# Altium schematic symbol library AirQualityMonitor.SchLib: 50 symbols (part 1 of 2)
Pins are listed as number, name and electrical type; pins without a type are passive.

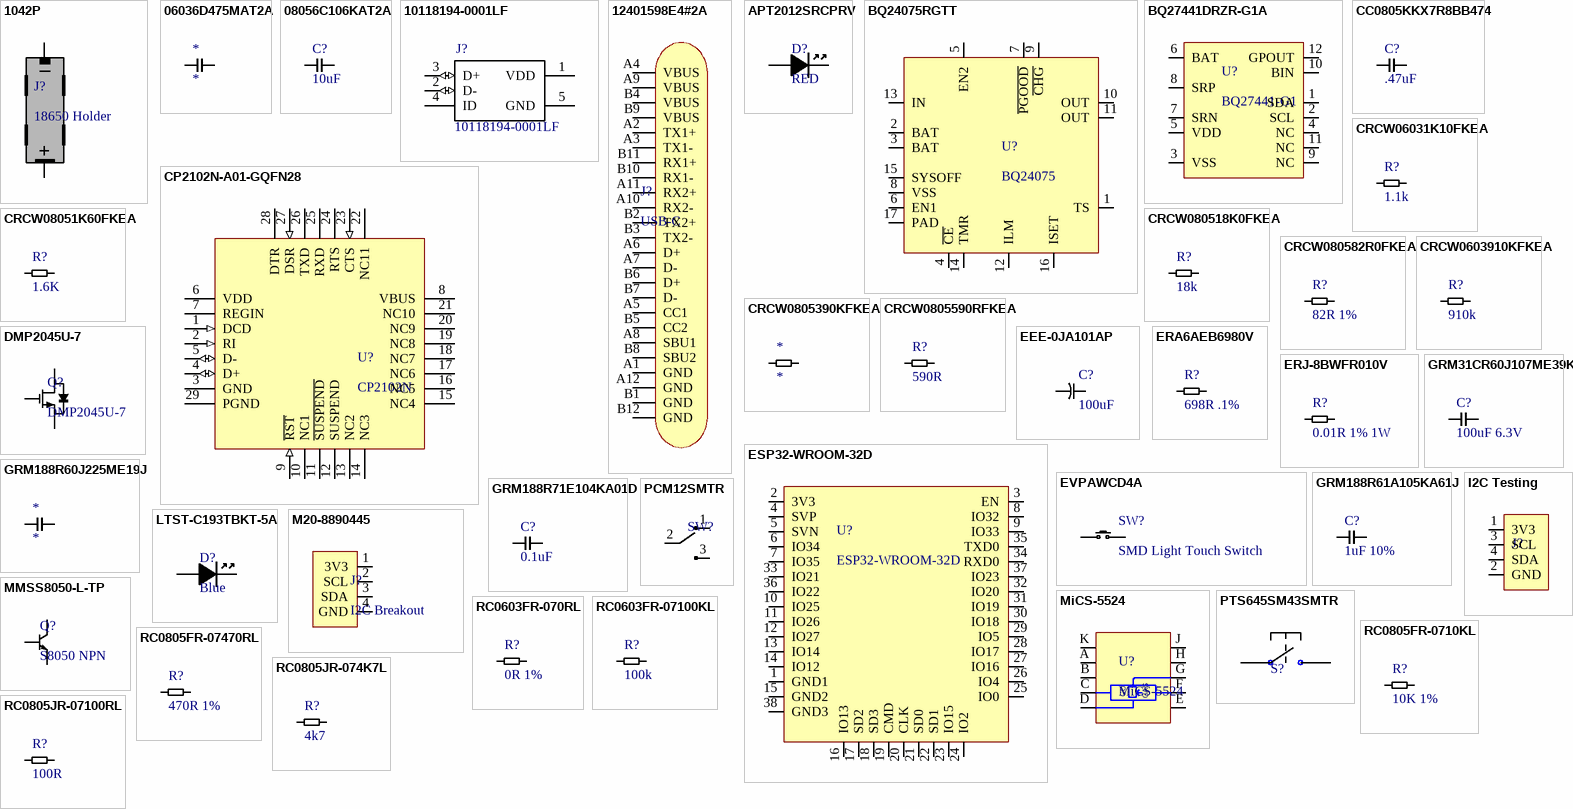
[diagram p0: symbols 1042P to RC0805JR-07100RL]

## 1042P
designator J?, comment 18650 Holder
Cylindrical Battery Contacts, Clips, Holders & Springs SMT Polarized Holder for 18650 Battery; Manufacturer: Keystone Electronics; Manufacturer Part Number: 1042P; Number of Cells: 1; Supplier 1: Digi-Key; Supplier Part Number 1: 36-1042P-ND; Stock 1: 3395; Pricing 1: 1=2.47, 10=2.107, 50=1.892, 100=1.806, 250=1.634, 1000=1.539, 2500=1.29, 5000=1.153 (USD); Mount: PCB,Surface Mount; Min Operating Temperature: -50°C; Max Operating Temperature: 145°C; Termination: SMD/SMT; Packaging: Tray; Package Quantity: 200; Lead Free: Lead Free; ComponentLink1Description: Mouser; ComponentLink1URL: https://www.mouser.com/ProductDetail/Keystone-Electronics/1042P?qs=sGAEpiMZZMtqO%252bWUGLBzeAoSIwG%2fyfJm2NzM8DAiwxE%3d; ComponentLink2Description: Datasheet; ComponentLink2URL: https://www.mouser.com/datasheet/2/215/042P-744096.pdf
footprint 18650 Holder
pins: 1 -, 2 +

## 06036D475MAT2A
designator *
CAP CER 4.7UF 6.3V X5R 0603; Manufacturer: Kyocera AVX; Manufacturer Part Number: 06036D475MAT2A; Dielectric Material: Ceramic; Tolerance: 20%; Dissipation Factor: 12.5%; Insulation Resistance: 10GR; Supplier 1: Mouser; Supplier Part Number 1: 581-06036D475MAT2A; Stock 1: 0; Mount: PCB,Surface Mount; Case/Package: 0603; Number of Pins: 2; Case Code (Metric): 1608; Case Code (Imperial): 0603; Contact Plating: Matte,Tin; Min Operating Temperature: -55°C; Max Operating Temperature: 85°C; Package Quantity: 1; Capacitance: 4.7uF; Voltage Rating: 6.3V; Packaging: Tape and Reel; Voltage Rating (DC): 6.3V; Dielectric: X5R; Termination: SMD/SMT; Voltage: 6.3V; Length: 1.6mm; Height: 0.9mm; Width: 0.032inch; Thickness: 0.035inch; Depth: 0.81mm; Radiation Hardening: No; Lead Free: Lead Free; REACH SVHC: No SVHC; ComponentLink1URL: http://catalogs.avx.com/SurfaceMount.pdf; ComponentLink1Description: http://catalogs.avx.com/SurfaceMount.pdf; ComponentLink2URL: http://www.jameco.com/Jameco/Products/ProdDS/2015361.pdf; ComponentLink2Description: http://www.jameco.com/Jameco/Products/ProdDS/2015361.pdf; ComponentLink3URL: http://datasheets.avx.com/cx5r.pdf; ComponentLink3Description: http://datasheets.avx.com/cx5r.pdf; ComponentLink4URL: https://www.alliedelec.com/m/d/a52e10b462cd2948cc4188268ca2ae21.pdf; ComponentLink4Description: https://www.alliedelec.com/m/d/a52e10b462cd2948cc4188268ca2ae21.pdf; ComponentLink5URL: http://www.farnell.com/datasheets/1796776.pdf; ComponentLink5Description: http://www.farnell.com/datasheets/1796776.pdf; ComponentLink6URL: https://www.verical.com/server-webapp/html/getDatasheet?partID=127729; ComponentLink6Description: https://www.verical.com/server-webapp/html/getDatasheet?partID=127729; ComponentLink7URL: http://www.farnell.com/datasheets/759405.pdf; ComponentLink7Description: http://www.farnell.com/datasheets/759405.pdf; ComponentLink8URL: https://www.avx.com/docs/catalogs/cx5r.pdf; ComponentLink8Description: https://www.avx.com/docs/catalogs/cx5r.pdf
footprint 0603MLCC
pins: 1, 2

## 08056C106KAT2A
designator C?, comment 10uF
CAP CER 10UF 6.3V X7R 0805; Manufacturer: Kyocera AVX; Manufacturer Part Number: 08056C106KAT2A; Tolerance: 10%; Supplier 1: Digi-Key; Supplier Part Number 1: 478-5322-6-ND; Stock 1: 0; Pricing 1: 1=0.83, 10=0.614, 100=0.4209, 500=0.33322, 1000=0.2806 (USD); Mount: PCB,Surface Mount; Case/Package: 0805; Number of Pins: 2; Case Code (Imperial): 0805; Case Code (Metric): 2012; Contact Plating: Matte,Tin; Min Operating Temperature: -55°C; Max Operating Temperature: 125°C; Capacitance: 10uF; Voltage Rating: 6.3V; Packaging: Tape and Reel; Voltage Rating (DC): 6.3V; Package Quantity: 1; Dielectric: X7R; Termination: SMD/SMT; Voltage: 6.3V; Length: 2.01mm; Height: 1.52mm; Width: 0.049inch; Thickness: 0.055inch; Depth: 1.25mm; Radiation Hardening: No; REACH SVHC: No SVHC; Lead Free: Lead Free; ComponentLink1URL: http://www.farnell.com/datasheets/2095836.pdf; ComponentLink1Description: http://www.farnell.com/datasheets/2095836.pdf; ComponentLink2URL: http://avx.com/docs/Catalogs/cx7r.pdf; ComponentLink2Description: http://avx.com/docs/Catalogs/cx7r.pdf; ComponentLink3URL: http://www.mouser.com/ds/2/40/X7RDielectric-777024.pdf; ComponentLink3Description: http://www.mouser.com/ds/2/40/X7RDielectric-777024.pdf; ComponentLink4URL: https://www.verical.com/server-webapp/html/getDatasheet?partID=149687; ComponentLink4Description: https://www.verical.com/server-webapp/html/getDatasheet?partID=149687; ComponentLink5URL: http://www.avx.com/docs/catalogs/cx7r.pdf; ComponentLink5Description: http://www.avx.com/docs/catalogs/cx7r.pdf; ComponentLink6URL: http://catalogs.avx.com/SurfaceMount.pdf; ComponentLink6Description: http://catalogs.avx.com/SurfaceMount.pdf; ComponentLink7URL: http://datasheets.avx.com/X7RDielectric.pdf; ComponentLink7Description: http://datasheets.avx.com/X7RDielectric.pdf
footprint 0805MLCC
pins: 1, 2

## 10118194-0001LF
designator J?
Conn Micro USB Type B RCP 5 POS 0.65mm Solder RA SMD 5 Terminal 1 Port T/R; MF: Amphenol FCI; Price: None; Package: None; SnapEDA_Link: https://www.snapeda.com/parts/10118194-0001LF/Amphenol%20ICC/view-part/?ref=snap; Availability: Unavailable; MP: 10118194-0001LF; Value: *
footprint FRAMATOME_10118194-0001LF
pins: 1 VDD (power), 2 D- (io), 3 D+ (io), 4 ID, 5 GND (power)

## 12401598E4#2A
designator J?, comment USB-C
USB - C USB 3.1, Superspeed+ Receptacle Connector 24 Position Surface Mount, Right Angle, Horizontal; Manufacturer: Amphenol Commercial; Manufacturer Part Number: 12401598E4#2A; Number of Contacts: 24; Supplier 1: Mouser; Supplier Part Number 1: 523-12401598E4#2A; Stock 1: 1682; Pricing 1: 1=1.75, 10=1.58, 50=1.42, 100=1.36, 1000=0.901, 10000=0.898 (USD); Mount: Horizontal,Surface Mount; Packaging: Tape and Reel; Connector Type: USB; Gender: Receptacle; ComponentLink1Description: Drawing; ComponentLink1URL: https://www.amphenol-icc.com/media/wysiwyg/files/drawing/12401598xxx2a.pdf
footprint USB-C Receptacle (SMD USB-C Receptacle)
pins: A1 GND, A2 TX1+, A3 TX1-, A4 VBUS, A5 CC1, A6 D+, A7 D-, A8 SBU1, A9 VBUS, A10 RX2-, A11 RX2+, A12 GND, B1 GND, B2 TX2+, B3 TX2-, B4 VBUS, B5 CC2, B6 D+, B7 D-, B8 SBU2, B9 VBUS, B10 RX1-, B11 RX1+, B12 GND

## APT2012SRCPRV
designator D?, comment RED
LED 2X1.2MM 640NM RD WTR CLR SMD; Manufacturer: Kingbright; Manufacturer Part Number: APT2012SRCPRV; Lens Color: Clear; Forward Current: 20mA; Forward Voltage: 1.85V; Power Rating: 75mW; Luminous Intensity: 100mcd; Viewing Angle: 120°; Lens Style: Clear,Flat; Wavelength: 655nm; Number of LEDs: 1; Supplier 1: Mouser; Supplier Part Number 1: 604-APT2012SRCPRV; Stock 1: 64032; Pricing 1: 1=0.43, 10=0.266, 50=0.266, 100=0.128, 1000=0.082, 10000=0.053 (USD); Mount: Surface Mount; Case/Package: 0805; Number of Pins: 2; Color: Red; Case Code (Metric): 2012; Case Code (Imperial): 0805; Min Operating Temperature: -40°C; Max Operating Temperature: 85°C; Package Quantity: 2000; Illumination Color: Red; Packaging: Tape and Reel; Dominant Wavelength: 640nm; Test Current: 20mA; Length: 2mm; Height: 0.75mm; Width: 1.25mm; Lead Free: Lead Free; ComponentLink1URL: http://www.mouser.com/ds/2/216/APT2012SRCPRV-56885.pdf; ComponentLink1Description: http://www.mouser.com/ds/2/216/APT2012SRCPRV-56885.pdf; ComponentLink2URL: http://www.kingbrightusa.com/images/catalog/SPEC/APT2012SRCPRV.pdf; ComponentLink2Description: http://www.kingbrightusa.com/images/catalog/SPEC/APT2012SRCPRV.pdf; ComponentLink3URL: http://www.rapidonline.com/pdf/72-9588.pdf; ComponentLink3Description: http://www.rapidonline.com/pdf/72-9588.pdf
footprint LEDC2012X75N_APT2012SRCPRV(Primary)
pins: 1, 2

## BQ24075RGTT
designator U?, comment BQ24075
TEXAS INSTRUMENTS   BQ24075RGTT   IC, BATTERY CHARGER,LI-ION, 1.5A, QFN-16; Output Voltage: 4.2V; Max Supply Voltage: 6.4V; Number of Cells: 1; Min Supply Voltage: 4.35V; Min Input Voltage: 4.3V; Max Output Current: 4.5A; Max Output Voltage: 5.6V; Min Output Voltage: 5.4V; Max Input Voltage: 26V; Supplier 1: Mouser; Supplier Part Number 1: 595-BQ24075RGTT; Manufacturer: Texas Instruments; Manufacturer Part Number: BQ24075RGTT; Stock 1: 2131; Pricing 1: 1=2.59, 10=2.2, 50=2.2, 100=1.76, 1000=1.28, 10000=1.15 (USD); Case/Package: QFN; Number of Pins: 16; Weight: 0.000808oz; Contact Plating: Gold; Min Operating Temperature: -40°C; Max Operating Temperature: 85°C; Package Quantity: 1; Output Current: 1.5A; Packaging: Tape and Reel; Max Charge Current: 1.5A; Termination: SMD/SMT; Length: 3.15mm; Height: 0.95mm; Width: 3.15mm; Radiation Hardening: No; Lead Free: Lead Free; REACH SVHC: No SVHC; ComponentLink1URL: https://www.verical.com/server-webapp/html/getDatasheet?partID=313264; ComponentLink1Description: https://www.verical.com/server-webapp/html/getDatasheet?partID=313264; ComponentLink2URL: http://www.ti.com/lit/gpn/bq24075; ComponentLink2Description: http://www.ti.com/lit/gpn/bq24075; ComponentLink3URL: http://www.farnell.com/datasheets/1885912.pdf; ComponentLink3Description: http://www.farnell.com/datasheets/1885912.pdf; ComponentLink4URL: http://www.farnell.com/datasheets/2001589.pdf; ComponentLink4Description: http://www.farnell.com/datasheets/2001589.pdf; ComponentLink5URL: http://www.ti.com/lit/ds/symlink/bq24079.pdf; ComponentLink5Description: http://www.ti.com/lit/ds/symlink/bq24079.pdf; ComponentLink6URL: http://www.ti.com/general/docs/lit/getliterature.tsp?genericPartNumber=BQ24079&&fileType=pdf; ComponentLink6Description: http://www.ti.com/general/docs/lit/getliterature.tsp?genericPartNumber=BQ24079&&fileType=pdf; ComponentLink7URL: http://datasheet.iiic.cc/texas_instruments/BQ24075RGTT.pdf; ComponentLink7Description: http://datasheet.iiic.cc/texas_instruments/BQ24075RGTT.pdf
footprint VQFN 16-pin 0.5mm pitch
pins: 1 TS, 2 BAT, 3 BAT, 4 ~{CE}, 5 EN2, 6 EN1, 7 ~{PGOOD}, 8 VSS, 9 ~{CHG}, 10 OUT, 11 OUT, 12 ILM, 13 IN, 14 TMR, 15 SYSOFF, 16 ISET, 17 PAD

## BQ27441DRZR-G1A
designator U?, comment BQ27441-G1
IC BATT FUEL GAUGE LI-ION 12SON; Manufacturer: Texas Instruments; Manufacturer Part Number: BQ27441DRZR-G1A; Number of Cells: 1; Interface: I2C; Capacity: 8000mAh; Output Voltage: 600mV; Output Current: 500uA; Operating Supply Voltage: 4.5V; Supplier 1: Mouser; Supplier Part Number 1: 595-BQ27441DRZR-G1A; Stock 1: 12994; Pricing 1: 1=2.54, 10=2.16, 50=2.16, 100=1.73, 1000=1.25, 10000=1.13 (USD); Mount: Surface Mount; Case/Package: QFN; Number of Pins: 12; Contact Plating: Gold; Min Operating Temperature: -40°C; Max Operating Temperature: 85°C; Package Quantity: 3000; Packaging: Tape and Reel; Lead Free: Lead Free; ComponentLink1Description: Datasheet; ComponentLink1URL: http://www.ti.com/lit/ds/symlink/bq27441-g1.pdf
footprint SON40P400X250X100-13N
pins: 1 SDA, 2 SCL, 3 VSS, 4 NC, 5 VDD, 6 BAT, 7 SRN, 8 SRP, 9 NC, 10 BIN, 11 NC, 12 GPOUT

## CC0805KKX7R8BB474
designator C?, comment .47uF
CAP CER 0.47UF 25V X7R 0805; Manufacturer: Yageo; Manufacturer Part Number: CC0805KKX7R8BB474; Capacitance: 470nF; Tolerance: 10%; Dissipation Factor: 5%; Insulation Resistance: 10GR; Supplier 1: Digi-Key; Supplier Part Number 1: 311-1364-6-ND; Stock 1: 0; Pricing 1: 1=0.29, 10=0.197, 100=0.0997, 500=0.06824, 1000=0.06037 (USD); Mount: Surface Mount; Case/Package: 0805; Number of Pins: 2; Case Code (Metric): 2012; Case Code (Imperial): 0805; Min Operating Temperature: -55°C; Max Operating Temperature: 125°C; Dielectric: X7R; Voltage: 25V; Packaging: Tape and Reel; Voltage Rating (DC): 25V; Package Quantity: 3000; Termination: SMD/SMT; Voltage Rating: 25V; Composition: Ceramic; Length: 2mm; Height: 1.25mm; Depth: 1.25mm; Width: 0.049inch; Thickness: 0.049inch; Radiation Hardening: No; Lead Free: Lead Free; Halogen Free: Halogen Free; REACH SVHC: No SVHC; ComponentLink1URL: http://documents.rs-components.com/techlib://itc_doclist_GB.htm?stockno=6963572; ComponentLink1Description: http://documents.rs-components.com/techlib://itc_doclist_GB.htm?stockno=6963572; ComponentLink2URL: http://www.farnell.com/datasheets/1489800.pdf; ComponentLink2Description: http://www.farnell.com/datasheets/1489800.pdf; ComponentLink3URL: http://www.yageo.com/documents/recent/UPY-GPHC_X7R_6.3V-to-50V_18.pdf; ComponentLink3Description: http://www.yageo.com/documents/recent/UPY-GPHC_X7R_6.3V-to-50V_18.pdf; ComponentLink4URL: https://www.verical.com/server-webapp/html/getDatasheet?partID=315216; ComponentLink4Description: https://www.verical.com/server-webapp/html/getDatasheet?partID=315216; ComponentLink5URL: http://www.mouser.com/ds/2/447/Yageo_UPY-GP_NP0_16V-to-50V_9-358835.pdf; ComponentLink5Description: http://www.mouser.com/ds/2/447/Yageo_UPY-GP_NP0_16V-to-50V_9-358835.pdf
footprint 0805MLCC
pins: 1, 2

## CP2102N-A01-GQFN28
designator U?, comment CP2102N
SILICON LABS         CP2102N-A01-GQFN28             Interface Bridges, USB to UART, 3 V, 3.6 V, QFN, 28 Pins, -40 C                          New; Min Supply Voltage: 3V; Max Supply Voltage: 3.6V; Supplier 1: Digi-Key; Supplier Part Number 1: 336-3694-ND; Manufacturer: Silicon Labs; Manufacturer Part Number: CP2102N-A01-GQFN28; Stock 1: 15372; Pricing 1: 1=1.4, 25=1.3516, 100=1.2995, 1000=1.22501 (USD); Case/Package: QFN; Number of Pins: 28; Min Operating Temperature: -40°C; Max Operating Temperature: 85°C; REACH SVHC: Unknown
footprint QFN50P500X500X80-29N
pins: 1 DCD (in), 2 RI (in), 3 GND, 4 D+ (io), 5 D- (io), 6 VDD, 7 REGIN, 8 VBUS (power), 9 ~{RST} (in), 10 NC1, 11 ~{SUSPEND}, 12 SUSPEND, 13 NC2, 14 NC3, 15 NC4, 16 NC5, 17 NC6, 18 NC7, 19 NC8, 20 NC9, 21 NC10, 22 NC11, 23 CTS (in), 24 RTS, 25 RXD, 26 TXD, 27 DSR (in), 28 DTR, 29 PGND

## CRCW06031K10FKEA
designator R?, comment 1.1k
RES SMD 1.1K OHM 1% 1/10W 0603; Manufacturer: Vishay; Manufacturer Part Number: CRCW06031K10FKEA; Resistance: 1.1kR; Power Rating: 100mW; Voltage Rating: 75V; Temperature Coefficient: 100ppm/°C; Supplier 1: Digi-Key; Supplier Part Number 1: 541-1.10KHDKR-ND; Stock 1: 0; Pricing 1: 1=0.1, 10=0.042, 100=0.017, 1000=0.00764, 2500=0.00663 (USD); Case/Package: 0603; Number of Pins: 2; Weight: 7.1E-05oz; Case Code (Metric): 1608; Case Code (Imperial): 0603; Contact Plating: Tin; Min Operating Temperature: -55°C; Max Operating Temperature: 155°C; Composition: Thick Film; Packaging: Tape and Reel; Tolerance: 1%; Package Quantity: 10; Termination: SMD/SMT; Military Standard: Not; Number of Terminations: 2; Max Power Dissipation: 100mW; Voltage Rating (DC): 75V; Features: Automotive AEC-Q200; Length: 1.55mm; Height: 0.02inch; Width: 0.033inch; Depth: 0.85mm; Radiation Hardening: No; REACH SVHC: Unknown; Lead Free: Lead Free; ComponentLink1URL: http://www.farnell.com/datasheets/2045673.pdf; ComponentLink1Description: http://www.farnell.com/datasheets/2045673.pdf; ComponentLink2URL: https://www.verical.com/server-webapp/html/getDatasheet?partID=26323; ComponentLink2Description: https://www.verical.com/server-webapp/html/getDatasheet?partID=26323; ComponentLink3URL: http://www.vishay.com/docs/20035/dcrcwe3.pdf; ComponentLink3Description: http://www.vishay.com/docs/20035/dcrcwe3.pdf; ComponentLink4URL: https://www.distrelec.biz/Web/Downloads/a_/en/flD-CRCW-e3_data_en.pdf?mime=application%2Fpdf; ComponentLink4Description: https://www.distrelec.biz/Web/Downloads/a_/en/flD-CRCW-e3_data_en.pdf?mime=application%2Fpdf; ComponentLink5URL: https://www.alliedelec.com/m/d/0c934d6939ccefa68dbe0b96d821c8cf.pdf; ComponentLink5Description: https://www.alliedelec.com/m/d/0c934d6939ccefa68dbe0b96d821c8cf.pdf; ComponentLink6URL: http://www.mouser.com/ds/2/427/dcrcwe3-109170.pdf; ComponentLink6Description: http://www.mouser.com/ds/2/427/dcrcwe3-109170.pdf
footprint 0603RES
pins: 1, 2

## CRCW08051K60FKEA
designator R?, comment 1.6K
RES SMD 1.6K OHM 1% 1/8W 0805; Manufacturer: Vishay; Manufacturer Part Number: CRCW08051K60FKEA; Resistance: 1.6kR; Power Rating: 125mW; Voltage Rating: 150V; Temperature Coefficient: 100ppm/°C; Supplier 1: Digi-Key; Supplier Part Number 1: 541-1.60KCDKR-ND; Stock 1: 12623; Pricing 1: 1=0.1, 10=0.069, 100=0.028, 1000=0.01256, 2500=0.0109 (USD); Case/Package: 0805; Number of Pins: 2; Weight: 0.000194oz; Case Code (Metric): 2012; Case Code (Imperial): 0805; Contact Plating: Tin; Min Operating Temperature: -55°C; Max Operating Temperature: 155°C; Composition: Thick Film; Tolerance: 1%; Packaging: Tape and Reel; Termination: SMD/SMT; Package Quantity: 5000; Number of Terminations: 2; Max Power Dissipation: 125mW; Voltage Rating (DC): 150V; Military Standard: Not; Features: Automotive AEC-Q200; Length: 2mm; Height: 0.45mm; Width: 0.049inch; Depth: 1.25mm; Radiation Hardening: No; Lead Free: Lead Free; REACH SVHC: Unknown; ComponentLink1URL: http://www.vishay.com/docs/20035/dcrcwe3.pdf; ComponentLink1Description: http://www.vishay.com/docs/20035/dcrcwe3.pdf; ComponentLink2URL: http://uk.rs-online.com/webdocs/0d98/0900766b80d98b26.pdf; ComponentLink2Description: http://uk.rs-online.com/webdocs/0d98/0900766b80d98b26.pdf; ComponentLink3URL: http://www.mouser.com/ds/2/427/dcrcwe3-109170.pdf; ComponentLink3Description: http://www.mouser.com/ds/2/427/dcrcwe3-109170.pdf; ComponentLink4URL: http://www.farnell.com/datasheets/2111203.pdf; ComponentLink4Description: http://www.farnell.com/datasheets/2111203.pdf; ComponentLink5URL: http://www.farnell.com/datasheets/2046716.pdf; ComponentLink5Description: http://www.farnell.com/datasheets/2046716.pdf; ComponentLink6URL: http://www.farnell.com/datasheets/1847332.pdf; ComponentLink6Description: http://www.farnell.com/datasheets/1847332.pdf; ComponentLink7URL: http://www.farnell.com/datasheets/1697337.pdf; ComponentLink7Description: http://www.farnell.com/datasheets/1697337.pdf; ComponentLink8URL: https://www.distrelec.biz/Web/Downloads/a_/en/flD-CRCW-e3_data_en.pdf?mime=application%2Fpdf; ComponentLink8Description: https://www.distrelec.biz/Web/Downloads/a_/en/flD-CRCW-e3_data_en.pdf?mime=application%2Fpdf
footprint 0805RES
pins: 1, 2

## CRCW080518K0FKEA
designator R?, comment 18k
RES SMD 18K OHM 1% 1/8W 0805; Manufacturer: Vishay; Manufacturer Part Number: CRCW080518K0FKEA; Resistance: 18kR; Power Rating: 125mW; Voltage Rating: 150V; Temperature Coefficient: 100ppm/°C; Supplier 1: Digi-Key; Supplier Part Number 1: 541-18.0KCDKR-ND; Stock 1: 0; Pricing 1: 1=0.1, 10=0.069, 100=0.028, 1000=0.01256, 2500=0.0109 (USD); Case/Package: 0805; Number of Pins: 2; Weight: 0.000194oz; Case Code (Metric): 2012; Case Code (Imperial): 0805; Contact Plating: Tin; Min Operating Temperature: -55°C; Max Operating Temperature: 155°C; Composition: Thick Film; Tolerance: 1%; Packaging: Tape and Reel; Number of Terminations: 2; Termination: SMD/SMT; Max Power Dissipation: 125mW; Voltage Rating (DC): 150V; Package Quantity: 10; Features: Automotive AEC-Q200; Military Standard: Not; Working Voltage: 150V; Length: 2mm; Height: 0.45mm; Depth: 1.25mm; Width: 0.049inch; Radiation Hardening: No; REACH SVHC: Unknown; Lead Free: Lead Free; ComponentLink1URL: http://www.vishay.com/docs/20035/dcrcwe3.pdf; ComponentLink1Description: http://www.vishay.com/docs/20035/dcrcwe3.pdf; ComponentLink2URL: https://www.distrelec.biz/Web/Downloads/a_/en/flD-CRCW-e3_data_en.pdf?mime=application%2Fpdf; ComponentLink2Description: https://www.distrelec.biz/Web/Downloads/a_/en/flD-CRCW-e3_data_en.pdf?mime=application%2Fpdf; ComponentLink3URL: http://www.farnell.com/datasheets/2046716.pdf; ComponentLink3Description: http://www.farnell.com/datasheets/2046716.pdf; ComponentLink4URL: http://www.alliedelec.com/m/d/0c934d6939ccefa68dbe0b96d821c8cf.pdf; ComponentLink4Description: http://www.alliedelec.com/m/d/0c934d6939ccefa68dbe0b96d821c8cf.pdf; ComponentLink5URL: http://uk.rs-online.com/webdocs/0d98/0900766b80d98b26.pdf; ComponentLink5Description: http://uk.rs-online.com/webdocs/0d98/0900766b80d98b26.pdf; ComponentLink6URL: http://www.mouser.com/ds/2/427/dcrcwe3-109170.pdf; ComponentLink6Description: http://www.mouser.com/ds/2/427/dcrcwe3-109170.pdf
footprint 0805RES
pins: 1, 2

## CRCW080582R0FKEA
designator R?, comment 82R 1%
RES SMD 82 OHM 1% 1/8W 0805; Manufacturer: Vishay; Manufacturer Part Number: CRCW080582R0FKEA; Power Rating: 125mW; Voltage Rating: 150V; Temperature Coefficient: 100ppm/°C; Supplier 1: Digi-Key; Supplier Part Number 1: 541-82.0CDKR-ND; Stock 1: 0; Pricing 1: 1=0.1, 10=0.069, 100=0.028, 1000=0.01256, 2500=0.0109 (USD); Case/Package: 0805; Number of Pins: 2; Weight: 0.000194oz; Case Code (Metric): 2012; Case Code (Imperial): 0805; Contact Plating: Tin; Min Operating Temperature: -55°C; Max Operating Temperature: 155°C; Composition: Thick Film; Resistance: 82R; Tolerance: 1%; Packaging: Tape and Reel; Termination: SMD/SMT; Package Quantity: 10; Number of Terminations: 2; Max Power Dissipation: 125mW; Voltage Rating (DC): 150V; Military Standard: Not; Features: Automotive AEC-Q200; Length: 2mm; Height: 0.45mm; Width: 0.049inch; Depth: 1.25mm; Radiation Hardening: No; REACH SVHC: Unknown; Lead Free: Lead Free; ComponentLink1URL: http://www.vishay.com/docs/20035/dcrcwe3.pdf; ComponentLink1Description: http://www.vishay.com/docs/20035/dcrcwe3.pdf; ComponentLink2URL: https://www.alliedelec.com/m/d/0c934d6939ccefa68dbe0b96d821c8cf.pdf; ComponentLink2Description: https://www.alliedelec.com/m/d/0c934d6939ccefa68dbe0b96d821c8cf.pdf; ComponentLink3URL: http://www.farnell.com/datasheets/1697337.pdf; ComponentLink3Description: http://www.farnell.com/datasheets/1697337.pdf; ComponentLink4URL: http://www.farnell.com/datasheets/2111203.pdf; ComponentLink4Description: http://www.farnell.com/datasheets/2111203.pdf; ComponentLink5URL: http://www.farnell.com/datasheets/2046716.pdf; ComponentLink5Description: http://www.farnell.com/datasheets/2046716.pdf; ComponentLink6URL: https://www.distrelec.biz/Web/Downloads/a_/en/flD-CRCW-e3_data_en.pdf?mime=application%2Fpdf; ComponentLink6Description: https://www.distrelec.biz/Web/Downloads/a_/en/flD-CRCW-e3_data_en.pdf?mime=application%2Fpdf; ComponentLink7URL: http://www.mouser.com/ds/2/427/dcrcwe3-109170.pdf; ComponentLink7Description: http://www.mouser.com/ds/2/427/dcrcwe3-109170.pdf; ComponentLink8URL: http://uk.rs-online.com/webdocs/0d98/0900766b80d98b26.pdf; ComponentLink8Description: http://uk.rs-online.com/webdocs/0d98/0900766b80d98b26.pdf
footprint 0805RES
pins: 1, 2

## CRCW0603910KFKEA
designator R?, comment 910k
RES SMD 910K OHM 1% 1/10W 0603; Manufacturer: Vishay; Manufacturer Part Number: CRCW0603910KFKEA; Resistance: 910kR; Power Rating: 100mW; Voltage Rating: 75V; Temperature Coefficient: 100ppm/°C; Supplier 1: Digi-Key; Supplier Part Number 1: 541-910KHTR-ND; Stock 1: 0; Pricing 1: 5000=0.00497, 10000=0.00432, 25000=0.00405 (USD); Case/Package: 0603; Number of Pins: 2; Weight: 7.1E-05oz; Case Code (Metric): 1608; Case Code (Imperial): 0603; Contact Plating: Tin; Min Operating Temperature: -55°C; Max Operating Temperature: 155°C; Composition: Thick Film; Tolerance: 1%; Packaging: Tape and Reel; Package Quantity: 10; Number of Terminations: 2; Military Standard: Not; Max Power Dissipation: 100mW; Voltage Rating (DC): 75V; Features: Automotive AEC-Q200; Termination: SMD/SMT; Length: 1.55mm; Height: 0.02inch; Width: 0.033inch; Depth: 0.85mm; Radiation Hardening: No; REACH SVHC: Unknown; Lead Free: Lead Free; ComponentLink1URL: http://www.vishay.com/docs/20035/dcrcwe3.pdf; ComponentLink1Description: http://www.vishay.com/docs/20035/dcrcwe3.pdf; ComponentLink2URL: http://www.mouser.com/ds/2/427/dcrcwe3-109170.pdf; ComponentLink2Description: http://www.mouser.com/ds/2/427/dcrcwe3-109170.pdf; ComponentLink3URL: http://www.farnell.com/datasheets/2111203.pdf; ComponentLink3Description: http://www.farnell.com/datasheets/2111203.pdf; ComponentLink4URL: http://www.farnell.com/datasheets/2046716.pdf; ComponentLink4Description: http://www.farnell.com/datasheets/2046716.pdf; ComponentLink5URL: http://www.farnell.com/datasheets/1697337.pdf; ComponentLink5Description: http://www.farnell.com/datasheets/1697337.pdf
footprint 0603RES
pins: 1, 2

## CRCW0805390KFKEA
designator *
Thick Film Resistors - SMD 1/8watt 390Kohms 1%; Manufacturer: Vishay; Manufacturer Part Number: CRCW0805390KFKEA; Voltage Rating: 150V; Resistance: 390kR; Power Rating: 125mW; Temperature Coefficient: 100ppm/°C; Supplier 1: Digi-Key; Supplier Part Number 1: 541-390KCDKR-ND; Stock 1: 1355; Pricing 1: 1=0.1, 10=0.069, 100=0.028, 1000=0.01256, 2500=0.0109 (USD); Mount: Surface Mount; Case/Package: 0805; Weight: 0.000194oz; Case Code (Imperial): 0805; Case Code (Metric): 2012; Contact Plating: Tin; Min Operating Temperature: -55°C; Max Operating Temperature: 155°C; Composition: Thick Film; Packaging: Tape and Reel; Tolerance: 1%; Package Quantity: 5000; Military Standard: Not; Termination: SMD/SMT; Voltage Rating (DC): 150V; Length: 2mm; Height: 0.45mm; Width: 1.25mm; Depth: 1.25mm; Radiation Hardening: No; REACH SVHC: Unknown; Lead Free: Lead Free; ComponentLink1URL: http://uk.rs-online.com/webdocs/0d98/0900766b80d98b26.pdf; ComponentLink1Description: http://uk.rs-online.com/webdocs/0d98/0900766b80d98b26.pdf; ComponentLink2URL: https://www.distrelec.biz/Web/Downloads/a_/en/flD-CRCW-e3_data_en.pdf?mime=application%2Fpdf; ComponentLink2Description: https://www.distrelec.biz/Web/Downloads/a_/en/flD-CRCW-e3_data_en.pdf?mime=application%2Fpdf; ComponentLink3URL: http://www.farnell.com/datasheets/2046716.pdf; ComponentLink3Description: http://www.farnell.com/datasheets/2046716.pdf; ComponentLink4URL: http://www.mouser.com/ds/2/427/dcrcwe3-109170.pdf; ComponentLink4Description: http://www.mouser.com/ds/2/427/dcrcwe3-109170.pdf
footprint 0805RES
pins: 1, 2

## CRCW0805590RFKEA
designator R?, comment 590R
RES SMD 590 OHM 1% 1/8W 0805; Manufacturer: Vishay; Manufacturer Part Number: CRCW0805590RFKEA; Voltage Rating: 150V; Power Rating: 125mW; Temperature Coefficient: 100ppm/°C; Supplier 1: Digi-Key; Supplier Part Number 1: 541-590CTR-ND; Stock 1: 0; Pricing 1: 5000=0.00819, 10000=0.00712, 25000=0.00666 (USD); Case/Package: 0805; Number of Pins: 2; Weight: 0.000194oz; Case Code (Metric): 2012; Case Code (Imperial): 0805; Contact Plating: Tin; Min Operating Temperature: -55°C; Max Operating Temperature: 155°C; Resistance: 590R; Tolerance: 1%; Composition: Thick Film; Packaging: Tape and Reel; Voltage Rating (DC): 150V; Number of Terminations: 2; Package Quantity: 10; Military Standard: Not; Max Power Dissipation: 125mW; Features: Automotive AEC-Q200; Length: 2mm; Height: 0.02inch; Width: 0.049inch; Depth: 1.25mm; Radiation Hardening: No; REACH SVHC: Unknown; Lead Free: Lead Free; ComponentLink1URL: http://www.vishay.com/docs/20035/dcrcwe3.pdf; ComponentLink1Description: http://www.vishay.com/docs/20035/dcrcwe3.pdf; ComponentLink2URL: http://www.mouser.com/ds/2/427/dcrcwe3-109170.pdf; ComponentLink2Description: http://www.mouser.com/ds/2/427/dcrcwe3-109170.pdf; ComponentLink3URL: http://www.farnell.com/datasheets/2111203.pdf; ComponentLink3Description: http://www.farnell.com/datasheets/2111203.pdf; ComponentLink4URL: http://www.farnell.com/datasheets/1697337.pdf; ComponentLink4Description: http://www.farnell.com/datasheets/1697337.pdf; ComponentLink5URL: http://www.farnell.com/datasheets/2046716.pdf; ComponentLink5Description: http://www.farnell.com/datasheets/2046716.pdf
footprint 0805RES
pins: 1, 2

## DMP2045U-7
designator Q?
P-Channel MOSFET 045R at VGS=-4.5V ID = -4.3A; Manufacturer: Diodes; Supplier 1: Mouser; Supplier Part Number 1: 621-DMP2045U-7; Manufacturer Part Number: DMP2045U-7; Stock 1: 0; Pricing 1: 1=0.45, 10=0.289, 50=0.289, 100=0.124, 1000=0.095, 10000=0.064 (USD); ComponentLink1Description: Datasheet; ComponentLink1URL: https://www.diodes.com/assets/Datasheets/DMP2045U.pdf
footprint SOT91P240X110-3N
pins: D, G, S

## EEE-0JA101AP
designator C?, comment 100uF
Capacitor; Alum Electrolytic; Cap 100 uF; Tol 20%; Vol-Rtg 6.3 VDC; SMT; 6.3x5.5; TR; Manufacturer: Panasonic; Manufacturer Part Number: EEE-0JA101AP; Voltage Rating: 6.3V; Ripple Current: 71mA; Life (Hours): 2000Hour; Supplier 1: Mouser; Supplier Part Number 1: 667-EEE-0JA101AP; Stock 1: 1849; Pricing 1: 1=0.4, 10=0.213, 50=0.213, 100=0.14, 1000=0.095, 10000=0.08 (USD); Mount: PCB,Surface Mount; Case/Package: Radial; Min Operating Temperature: -40°C; Max Operating Temperature: 85°C; Capacitance: 100uF; Tolerance: 20%; Packaging: Tape and Reel; Package Quantity: 1; Voltage Rating (DC): 6.3V; Termination: SMD/SMT; Diameter: 6.3mm; Length: 5.5mm; Height: 5.4mm; Height - Seated (Max): 0.213inch; Radiation Hardening: No; ComponentLink1URL: http://industrial.panasonic.com/www-data/pdf/ABA0000/ABA0000CE115.pdf; ComponentLink1Description: http://industrial.panasonic.com/www-data/pdf/ABA0000/ABA0000CE115.pdf; ComponentLink2URL: https://www.alliedelec.com/m/d/9640fa49e7446ab9473c3651dab6d12b.pdf; ComponentLink2Description: https://www.alliedelec.com/m/d/9640fa49e7446ab9473c3651dab6d12b.pdf
footprint CAPAE430X550N
pins: 1, 2

## ERA6AEB6980V
designator R?, comment 698R .1%
RESISTOR, 0805, 698R, 0.1%, 0.125W; Manufacturer: Panasonic; Manufacturer Part Number: ERA6AEB6980V; Power Rating: 125mW; Voltage Rating: 100V; Temperature Coefficient: 25ppm/°C; Supplier 1: Mouser; Supplier Part Number 1: 667-ERA-6AEB6980V; Stock 1: 9539; Pricing 1: 1=0.63, 10=0.249, 50=0.249, 100=0.149, 1000=0.076, 10000=0.039 (USD); Mount: Surface Mount; Case/Package: 0805; Number of Pins: 2; Case Code (Metric): 2012; Case Code (Imperial): 0805; Contact Plating: Tin; Min Operating Temperature: -55°C; Max Operating Temperature: 155°C; Packaging: Tape and Reel; Tolerance: 0.1%; Resistance: 698R; Composition: Metal Film,Thin Film; Number of Terminations: 2; Package Quantity: 1; Voltage Rating (DC): 100V; Termination: SMD/SMT; Max Power Dissipation: 125mW; Features: Automotive AEC-Q200; Military Standard: Not; Length: 2mm; Height: 0.5mm; Width: 1.25mm; Depth: 1.25mm; Radiation Hardening: No; Lead Free: Lead Free; ComponentLink1URL: http://industrial.panasonic.com/www-data/pdf/AOA0000/AOA0000CE26.pdf; ComponentLink1Description: http://industrial.panasonic.com/www-data/pdf/AOA0000/AOA0000CE26.pdf; ComponentLink2URL: http://www.farnell.com/datasheets/485442.pdf; ComponentLink2Description: http://www.farnell.com/datasheets/485442.pdf; ComponentLink3URL: http://uk.rs-online.com/webdocs/0eb1/0900766b80eb1d8c.pdf; ComponentLink3Description: http://uk.rs-online.com/webdocs/0eb1/0900766b80eb1d8c.pdf; ComponentLink4URL: http://www.produktinfo.conrad.com/datenblaetter/1100000-1199999/001181233-da-01-en-WIDERSTAND_ERA_0805_698R_0_1__5000ST.pdf; ComponentLink4Description: http://www.produktinfo.conrad.com/datenblaetter/1100000-1199999/001181233-da-01-en-WIDERSTAND_ERA_0805_698R_0_1__5000ST.pdf
footprint 0805RES
pins: 1, 2

## ERJ-8BWFR010V
designator R?, comment 0.01R 1% 1W
Current Sense Resistor, 0.01 ohm, 1206 [3216 Metric], 1 W,  1%, ERJ8B Series; Manufacturer: Panasonic; Manufacturer Part Number: ERJ-8BWFR010V; Resistance: 10mR; Temperature Coefficient: 200ppm/°C; Supplier 1: Digi-Key; Supplier Part Number 1: P.010AUDKR-ND; Stock 1: 131309; Pricing 1: 1=0.74, 10=0.618, 100=0.4148, 1000=0.2427, 2500=0.23475 (USD); Mount: Surface Mount; Case/Package: 1206; Case Code (Imperial): 1206; Case Code (Metric): 3216; Contact Plating: Tin; Min Operating Temperature: -55°C; Max Operating Temperature: 155°C; Power Rating: 1W; Tolerance: 1%; Packaging: Tape and Reel; Package Quantity: 1; Composition: Low-Ohm-Resistor,Thick Film; Termination: SMD/SMT; Military Standard: Not; Number of Terminations: 2; Max Power Dissipation: 1W; Features: Automotive AEC-Q200; Length: 3.2mm; Height: 0.65mm; Width: 1.6mm; Depth: 1.6mm; Radiation Hardening: No; REACH SVHC: No SVHC; Lead Free: Lead Free; ComponentLink1URL: http://uk.rs-online.com/webdocs/13b8/0900766b813b869e.pdf; ComponentLink1Description: http://uk.rs-online.com/webdocs/13b8/0900766b813b869e.pdf; ComponentLink2URL: http://industrial.panasonic.com/www-data/pdf/AOA0000/AOA0000CE3.pdf; ComponentLink2Description: http://industrial.panasonic.com/www-data/pdf/AOA0000/AOA0000CE3.pdf; ComponentLink3URL: https://www.distrelec.biz/Web/Downloads/_t/ds/ERJ_eng_tds.pdf?mime=application%2Fpdf; ComponentLink3Description: https://www.distrelec.biz/Web/Downloads/_t/ds/ERJ_eng_tds.pdf?mime=application%2Fpdf; ComponentLink4URL: https://industrial.panasonic.com/cdbs/www-data/pdf/RDN0000/AOA0000C313.pdf; ComponentLink4Description: https://industrial.panasonic.com/cdbs/www-data/pdf/RDN0000/AOA0000C313.pdf; ComponentLink5URL: http://www.farnell.com/datasheets/39793.pdf; ComponentLink5Description: http://www.farnell.com/datasheets/39793.pdf
footprint 1206RES
pins: 1, 2

## ESP32-WROOM-32D
designator U?
ESP32 Module; Manufacturer: Espressif Systems; Supplier 1: Mouser; Supplier Part Number 1: 356-ESP32WROOM-32D; Manufacturer Part Number: ESP32-WROOM-32D; Stock 1: 1150; Pricing 1: 1=3.8, 10=3.8, 50=3.8, 100=3.8, 1000=3.8, 10000=3.8 (USD); ComponentLink1Description: Datasheet; ComponentLink1URL: https://www.mouser.com/datasheet/2/891/esp32-wroom-32d_esp32-wroom-32u_datasheet_en-1365844.pdf
footprint MODULE_ESP32-WROOM-32D
pins: 1 GND1, 2 3V3, 3 EN, 4 SVP, 5 SVN, 6 IO34 (io), 7 IO35 (io), 8 IO32 (io), 9 IO33 (io), 10 IO25 (io), 11 IO26 (io), 12 IO27 (io), 13 IO14 (io), 14 IO12 (io), 15 GND2, 16 IO13 (io), 17 SD2, 18 SD3, 19 CMD, 20 CLK, 21 SD0, 22 SD1, 23 IO15 (io), 24 IO2 (io), 25 IO0 (io), 26 IO4 (io), 27 IO16 (io), 28 IO17 (io), 29 IO5 (io), 30 IO18 (io), 31 IO19 (io), 32 IO20 (io), 33 IO21 (io), 34 RXD0 (io), 35 TXD0 (io), 36 IO22 (io), 37 IO23 (io), 38 GND3

## EVPAWCD4A
designator SW?, comment SMD Light Touch Switch
Tactile Switch; Manufacturer: Panasonic; Manufacturer Part Number: EVPAWCD4A; Supplier 1: Digikey; Supplier Part Number 1: P123439CT-ND; Stock 1: 19414; Pricing 1: 1=0.3, 10=0.289, 25=0.2788, 50=0.2686, 100=0.2582, 250=0.23756, 500=0.20658, 1000=0.17559, 5000=0.14719 (USD); ComponentLink1URL: http://datasheet.octopart.com/EVPAWCD4A-Panasonic-datasheet-96186218.pdf; ComponentLink1Description: http://datasheet.octopart.com/EVPAWCD4A-Panasonic-datasheet-96186218.pdf
footprint Tactile Switch
pins: 1, 2

## GRM31CR60J107ME39K
designator C?, comment 100uF 6.3V
Multilayer Ceramic Capacitors MLCC - SMD/SMT 1206 100uF 6.3volt X5R +/-20%; Manufacturer: Murata; Manufacturer Part Number: GRM31CR60J107ME39K; Tolerance: 20%; Supplier 1: Digi-Key; Supplier Part Number 1: GRM31CR60J107ME39K-ND; Stock 1: 0; Mount: Surface Mount; Case/Package: 1206; Case Code (Imperial): 1206; Case Code (Metric): 3216; Min Operating Temperature: -55°C; Max Operating Temperature: 85°C; Capacitance: 100uF; Packaging: Tape and Reel; Package Quantity: 1; Voltage Rating: 6.3V; Termination: SMD/SMT; Voltage Rating (DC): 6.3V; Dielectric: X5R; Voltage: 6.3V; Length: 3.2mm; Height: 1.6mm; Width: 0.063inch; Depth: 1.6mm; Thickness: 0.071inch; Radiation Hardening: No; REACH SVHC: No SVHC; Lead Free: Lead Free; ComponentLink1URL: http://www.mouser.com/ds/2/281/GRM31A7U2H471JW31-01-1064911.pdf; ComponentLink1Description: http://www.mouser.com/ds/2/281/GRM31A7U2H471JW31-01-1064911.pdf; ComponentLink2URL: https://www.murata.com/~/media/webrenewal/support/library/catalog/products/capacitor/mlcc/c02e.ashx?la=en-us; ComponentLink2Description: https://www.murata.com/~/media/webrenewal/support/library/catalog/products/capacitor/mlcc/c02e.ashx?la=en-us
footprint 1206MLCC
pins: 1, 2

## GRM188R60J225ME19J
designator *
2.2µF ±20% 6.3V X5R Ceramic Capacitor -55°C ~ 85°C Surface Mount, MLCC 0603 (1608 Metric) 0.063" L x 0.031" W (1.60mm x 0.80mm); Manufacturer: Murata; Manufacturer Part Number: GRM188R60J225ME19J; Capacitance: 2.2uF; Supplier 1: Mouser; Supplier Part Number 1: 81-GRM188R60J225ME9J; Stock 1: 0; Mount: Surface Mount; Case/Package: 0603; Case Code (Imperial): 0603; Case Code (Metric): 1608; Min Operating Temperature: -55°C; Max Operating Temperature: 85°C; Voltage Rating (DC): 6.3V; Tolerance: 20%; Packaging: Tape and Reel; Dielectric: X5R; Termination: SMD/SMT; Package Quantity: 10000; Voltage Rating: 6.3V; Length: 1.6mm; Height: 0.8mm; Width: 0.8mm; Depth: 0.8mm; Thickness: 0.035inch; Radiation Hardening: No; ComponentLink1URL: http://www.mouser.com/ds/2/281/c02e-2905.pdf; ComponentLink1Description: http://www.mouser.com/ds/2/281/c02e-2905.pdf; ComponentLink2URL: http://search.murata.co.jp/Ceramy/image/img/A01X/partnumbering_e_01.pdf; ComponentLink2Description: http://search.murata.co.jp/Ceramy/image/img/A01X/partnumbering_e_01.pdf; ComponentLink3URL: http://psearch.murata.com/capacitor/product/GRM188R60J225ME19%23.pdf; ComponentLink3Description: http://psearch.murata.com/capacitor/product/GRM188R60J225ME19%23.pdf
footprint 0603MLCC
pins: 1, 2

## GRM188R61A105KA61J
designator C?, comment 1uF 10%
Multilayer Ceramic Capacitors MLCC - SMD/SMT 0603 1uF 10volts X5R 10%; Manufacturer: Murata; Manufacturer Part Number: GRM188R61A105KA61J; Voltage Rating: 10V; Supplier 1: Digi-Key; Supplier Part Number 1: 490-6408-1-ND; Stock 1: 100000; Mount: Surface Mount; Case/Package: 0603; Case Code (Metric): 1608; Case Code (Imperial): 0603; Min Operating Temperature: -55°C; Max Operating Temperature: 85°C; Package Quantity: 1; Capacitance: 1uF; Tolerance: 10%; Packaging: Tape and Reel; Voltage Rating (DC): 10V; Dielectric: X5R; Termination: SMD/SMT; Length: 1.6mm; Height: 0.8mm; Width: 0.031inch; Thickness: 0.035inch; Depth: 0.8mm; Radiation Hardening: No; REACH SVHC: No SVHC; ComponentLink1URL: https://www.murata.com/~/media/webrenewal/support/library/catalog/products/capacitor/mlcc/c02e.ashx?la=en-us; ComponentLink1Description: https://www.murata.com/~/media/webrenewal/support/library/catalog/products/capacitor/mlcc/c02e.ashx?la=en-us
footprint 0603MLCC
pins: 1, 2

## GRM188R71E104KA01D
designator C?, comment 0.1uF
CAP CER 0.1UF 25V X7R 0603; Manufacturer: Murata; Manufacturer Part Number: GRM188R71E104KA01D; Material: Ceramic; Capacitance: 100nF; Tolerance: 10%; Supplier 1: Digi-Key; Supplier Part Number 1: 490-1524-6-ND; Stock 1: 4000; Pricing 1: 1=0.13 (USD); Mount: Surface Mount; Case/Package: 0603; Number of Pins: 2; Weight: 7.1E-05oz; Case Code (Metric): 1608; Case Code (Imperial): 0603; Min Operating Temperature: -55°C; Max Operating Temperature: 125°C; Package Quantity: 1; Voltage Rating: 25V; Packaging: Tape and Reel; Voltage Rating (DC): 25V; Dielectric: X7R; Termination: SMD/SMT; Voltage: 25V; Length: 1.6mm; Height: 0.8mm; Width: 0.031inch; Thickness: 0.035inch; Depth: 0.8mm; Radiation Hardening: No; Lead Free: Lead Free; REACH SVHC: Unknown; ComponentLink1URL: https://www.murata.com/~/media/webrenewal/support/library/catalog/products/capacitor/mlcc/c02e.ashx?la=en-us; ComponentLink1Description: https://www.murata.com/~/media/webrenewal/support/library/catalog/products/capacitor/mlcc/c02e.ashx?la=en-us; ComponentLink2URL: http://psearch.en.murata.com/capacitor/product/GRM188R71E103KA01%23.pdf; ComponentLink2Description: http://psearch.en.murata.com/capacitor/product/GRM188R71E103KA01%23.pdf; ComponentLink3URL: http://www.farnell.com/datasheets/1747454.pdf; ComponentLink3Description: http://www.farnell.com/datasheets/1747454.pdf; ComponentLink4URL: http://www.jameco.com/Jameco/Products/ProdDS/1857495.pdf; ComponentLink4Description: http://www.jameco.com/Jameco/Products/ProdDS/1857495.pdf; ComponentLink5URL: https://www.verical.com/server-webapp/html/getDatasheet?partID=44549; ComponentLink5Description: https://www.verical.com/server-webapp/html/getDatasheet?partID=44549; ComponentLink6URL: https://produktinfo.conrad.com/datenblaetter/450000-474999/451555-da-01-en-VS_KONDENSATOR_0603.pdf; ComponentLink6Description: https://produktinfo.conrad.com/datenblaetter/450000-474999/451555-da-01-en-VS_KONDENSATOR_0603.pdf
footprint 0603MLCC
pins: 1, 2

## I2C Testing
designator J?, comment Header for I2C Testing  (value not drawn)
1x4 Header for I2C Testing
footprint 1x4 Header 2.54mm pitch
pins: 1 3V3, 2 GND, 3 SCL, 4 SDA

## LTST-C193TBKT-5A
designator D?, comment Blue
Standard LEDs - SMD Blue 470nm 28mcd 5mA; Manufacturer: Vishay Lite-On; Manufacturer Part Number: LTST-C193TBKT-5A; Lens Colour: Clear,Colorless; Forward Current: 20mA; Forward Voltage: 2.8V; Luminous Intensity: 15mcd; Viewing Angle: 130°; Lens Style: Clear,Colorless,Diffused,Rectangular; Dominant Wavelength: 475nm; Lens Transparency: Clear; Number of Elements: 1; Power Dissipation: 76mW; Reverse Voltage: 5V; Supplier 1: Mouser; Supplier Part Number 1: 859-LTSTC193TBKT5A; Stock 1: 100531; Pricing 1: 1=0.43, 10=0.23, 50=0.23, 100=0.108, 1000=0.078, 10000=0.055 (USD); Mount: Surface Mount; Case/Package: 0603; Number of Pins: 2; Colour: Blue; Case Code (Metric): 1608; Case Code (Imperial): 0603; Min Operating Temperature: -20°C; Max Operating Temperature: 80°C; Package Quantity: 1; Packaging: Tape and Reel; Illumination Colour: Blue; Test Current: 5mA; Number of LEDs: 1; Length: 1.6mm; Height: 0.35mm; Width: 0.8mm; Depth: 0.8mm; Radiation Hardening: No; Lead Free: Lead Free; ComponentLink1URL: http://www.mouser.com/ds/2/239/Lite-On-LTST-C193TBKT-5A-187386.pdf; ComponentLink1Description: http://www.mouser.com/ds/2/239/Lite-On-LTST-C193TBKT-5A-187386.pdf; ComponentLink2URL: https://media.digikey.com/pdf/Data%20Sheets/Lite-On%20PDFs/LTST-C193TBKT-5A.pdf; ComponentLink2Description: https://media.digikey.com/pdf/Data%20Sheets/Lite-On%20PDFs/LTST-C193TBKT-5A.pdf; ComponentLink3URL: https://www.verical.com/server-webapp/html/getDatasheet?partID=293056; ComponentLink3Description: https://www.verical.com/server-webapp/html/getDatasheet?partID=293056; ComponentLink4URL: http://uk.rs-online.com/webdocs/0dc0/0900766b80dc0554.pdf; ComponentLink4Description: http://uk.rs-online.com/webdocs/0dc0/0900766b80dc0554.pdf; ComponentLink5URL: http://www1.futureelectronics.com/doc/LITE-ON/LTST-C193TBKT-5A.pdf; ComponentLink5Description: http://www1.futureelectronics.com/doc/LITE-ON/LTST-C193TBKT-5A.pdf
footprint LTST-C193TBKT-5A
pins: 1, 2

## M20-8890445
designator J?, comment I2C Breakout
Header for testing I2C; Manufacturer: Harwin; Manufacturer Part Number: M20-8890445; Supplier 1: Mouser; Supplier Part Number 1: 855-M20-8890445; Stock 1: 1433; Pricing 1: 1=0.5, 10=0.471, 50=0.471, 100=0.362, 1000=0.26, 10000=0.212 (USD)
footprint 4pin smd header
pins: 1 3V3, 2 SCL, 3 SDA, 4 GND

## MiCS-5524
designator U?
10-500ppm Ethanol Sensor; Manufacturer: Amphenol SGX Sensortech; Supply Voltage Min: 4.9V; Supply Voltage Max: 5.1V; Current Rating: 32mA; Carbon monoxide range: 1-1000ppm; Ammonia range: 1-500ppm; Methane range: >1000ppm; Sensing resistance in air (R_0): 100 to 1500R; Heating power: 76mW typ, 71mW min, 81mW max; Heating voltage: 2.4V; Heating resistance at nominal power: 74R typ, 66R min, 82R max; Max heater power dissipation: 88mW; Max sensitive layer power dissipation: 8mW; Relative humidity range: 5-95%RH; ComponentLink1Description: Hook-up Guide; ComponentLink1URL: https://learn.adafruit.com/adafruit-mics5524-gas-sensor-breakout/overview; ComponentLink2Description: Manufacturer; ComponentLink2URL: https://sgx.cdistore.com/Products/Detail/MICS5524-SGX-Sensortech/333420/; Category: Air Quality Sensors; Series: MICS; Minimum Operating Temp: -30C; Maximum Operating Temp: +85C; Mounting Style: SMD; Ethanol range: 10-500ppm; Hydrogen range: 1-1000ppm; Storage temperature range: -40 to 120C; Supplier 1: Mouser; Supplier Part Number 1: 523-MICS-5524; ComponentLink3Description: Datasheet; ComponentLink3URL: https://www.mouser.com/datasheet/2/18/1084_Datasheet-MiCS-5524-rev-8-1144838.pdf
footprint MiCS5524 Ethanol Sensor
pins: A, B, C, D, E, F, G, H, J, K
text: CO; GAS

## MMSS8050-L-TP
designator Q?, comment S8050 NPN
TRANS NPN 25V 1.5A SOT-23; Manufacturer: MCC; Manufacturer Part Number: MMSS8050-L-TP; Max Power Dissipation: 625mW; hFE Min: 40; Collector Emitter Voltage (VCEO): 500mV; Transition Frequency: 100MHz; Collector Base Voltage (VCBO): 40V; Emitter Base Voltage (VEBO): 5V; Element Configuration: Single; Supplier 1: Digi-Key; Supplier Part Number 1: MMSS8050-L-TPMSDKR-ND; Stock 1: 28424; Pricing 1: 1=0.21, 10=0.19, 25=0.1728, 100=0.1246, 250=0.07336, 500=0.0609, 1000=0.04152 (USD); Mount: Surface Mount; Case/Package: TO-236-3; Min Operating Temperature: -55°C; Max Operating Temperature: 150°C; Packaging: Tape and Reel; Package Quantity: 3000; Max Collector Current: 1.5A; Polarity: NPN; Collector Emitter Saturation Voltage: 500mV; Collector Emitter Breakdown Voltage: 25V; Gain Bandwidth Product: 100MHz; Max Breakdown Voltage: 25V; Lead Free: Lead Free; ComponentLink1URL: http://www.mccsemi.com/up_pdf/MMSS8050(SOT-23).pdf; ComponentLink1Description: http://www.mccsemi.com/up_pdf/MMSS8050(SOT-23).pdf; ComponentLink2URL: http://www.mouser.com/ds/2/258/MMSS8050(SOT-23)-276387.pdf; ComponentLink2Description: http://www.mouser.com/ds/2/258/MMSS8050(SOT-23)-276387.pdf
footprint SOT23-NPN
pins: B, C, E

## PCM12SMTR
designator SW?  (value not drawn)
C & K COMPONENTS         PCM12SMTR             Slide Switch, SPDT, On-On, SMD, PCM Series, 300 mA; Manufacturer: ITT C&K; Mechanical Life: 10000Cycles; Actuator Material: Nylon,Polyamide; Voltage Rating (AC): 6V; Contact Resistance: 70mR; Max Current Rating: 300mA; Insulation Resistance: 100mR; Switch Travel: 1.5mm; Actuator Type: Standard; Supplier 1: Mouser; Supplier Part Number 1: 611-PCM12SMTR; Manufacturer Part Number: PCM12SMTR; Stock 1: 22229; Pricing 1: 1=0.87, 10=0.83, 50=0.762, 100=0.726, 1000=0.581, 10000=0.528 (USD); Mount: Surface Mount; Contact Material: Copper,Copper Alloy,Silver; Contact Plating: Silver; Min Operating Temperature: -20°C; Max Operating Temperature: 85°C; Package Quantity: 1; Packaging: Tape and Reel; Throw Configuration: SPDT; Voltage Rating (DC): 6V; Max Voltage Rating (DC): 6V; Contact Current Rating: 300mA; Current Rating: 300mA; Termination: Gull Wing; Orientation: Right Angle; Switch Function: On-On; Length: 7.7mm; Width: 6.7mm; Depth: 5mm; Actuator Length: 1.5mm; REACH SVHC: No SVHC; Lead Free: Lead Free; ComponentLink1URL: https://www.ckswitches.com/media/1424/pcm.pdf; ComponentLink1Description: https://www.ckswitches.com/media/1424/pcm.pdf; ComponentLink2URL: https://products.avnet.com/shop/en/asia/switches-and-relays/switches/slide-switch/www.ckswitches.com/media/1424/pcm.pdf; ComponentLink2Description: https://products.avnet.com/shop/en/asia/switches-and-relays/switches/slide-switch/www.ckswitches.com/media/1424/pcm.pdf; ComponentLink3URL: http://www1.futureelectronics.com/doc/C%20&%20K%20COMPONENTS/PCM12SMTR.pdf; ComponentLink3Description: http://www1.futureelectronics.com/doc/C%20&%20K%20COMPONENTS/PCM12SMTR.pdf; ComponentLink4URL: http://www.farnell.com/datasheets/1789487.pdf; ComponentLink4Description: http://www.farnell.com/datasheets/1789487.pdf
footprint SW_PCM12SMTR_PCM12SMTR(Primary)
pins: 1, 2, 3

## PTS645SM43SMTR
designator S?  (value not drawn)
Switch Tact 6mm 100gf h=4.3mm; MP: PTS645SM43SMTR; MF: C&K; SnapEDA_Link: https://www.snapeda.com/parts/PTS645SM43SMTR/C%26K/view-part/?ref=snap; Availability: Unavailable; Package: None; Price: None; Value: *
footprint PTS645SM43SMTR
pins: 1 P$1, 2 P$1, 3 P$2, 4 P$2

## RC0603FR-070RL
designator R?, comment 0R 1%
Thick Film Resistors - SMD 0.0ohm 1%; Manufacturer: Yageo; Manufacturer Part Number: RC0603FR-070RL; Resistance: 0mR; Power Rating: 100mW; Voltage Rating: 50V; Temperature Coefficient: 200ppm/°C; Current Rating: 1A; Working Voltage: 75V; Supplier 1: Mouser; Supplier Part Number 1: 311-0.0HRCT-ND; Stock 1: 0; Case/Package: 0603; Number of Pins: 2; Case Code (Metric): 1608; Case Code (Imperial): 0603; Contact Plating: Matte,Tin; Min Operating Temperature: -55°C; Max Operating Temperature: 155°C; Packaging: Tape and Reel; Tolerance: 1%; Composition: Thick Film; Voltage Rating (DC): 50V; Package Quantity: 5000; Military Standard: Not; Termination: SMD/SMT; Number of Terminations: 2; Max Power Dissipation: 100mW; Features: Moisture Resistant; Length: 1.6mm; Height: 0.45mm; Width: 0.031inch; Depth: 0.8mm; Radiation Hardening: No; REACH SVHC: No SVHC; Lead Free: Lead Free; ComponentLink1URL: http://www.farnell.com/datasheets/1868787.pdf; ComponentLink1Description: http://www.farnell.com/datasheets/1868787.pdf; ComponentLink2URL: http://www.farnell.com/datasheets/443971.pdf; ComponentLink2Description: http://www.farnell.com/datasheets/443971.pdf; ComponentLink3URL: http://www.yageo.com/documents/recent/PYu-RC_Group_51_RoHS_L_9.pdf; ComponentLink3Description: http://www.yageo.com/documents/recent/PYu-RC_Group_51_RoHS_L_9.pdf; ComponentLink4URL: http://documents.rs-components.com/techlib://itc_doclist_GB.htm?stockno=5048827; ComponentLink4Description: http://documents.rs-components.com/techlib://itc_doclist_GB.htm?stockno=5048827
footprint 0603RES
pins: 1, 2